# EAGLE library part ESP32-CAM (library ESP32-CAM)
Check prices <https://pricing.snapeda.com/parts/ESP32-CAM/AI-Thinker/view-part?ref=eda>
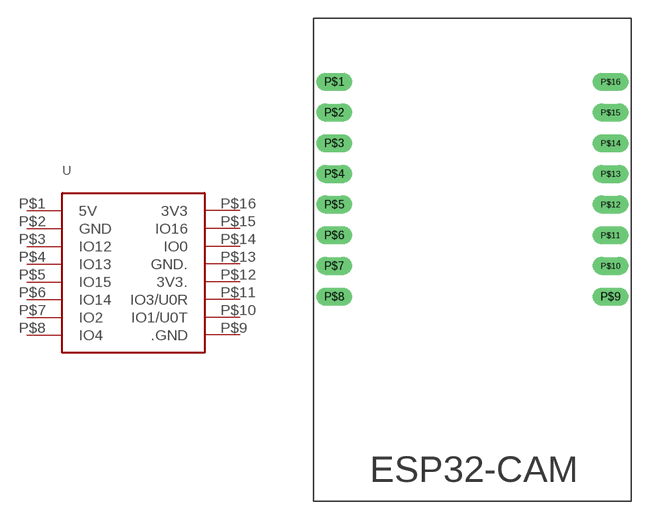
[diagram p0: symbol with the pads of ESP32-CAM; footprint ESP32-CAM]

Designator prefix -

## ESP32-CAM (Availability: Not in stock; Description: ESP32 ESP32 Transceiver; 802.11 a/b/g/n (Wi-Fi, WiFi, WLAN), Bluetooth® Smart 4.x Low Energy (BLE) Evaluation Board; MF: AI-Thinker; MP: ESP32-CAM; Package: Package; Price: None)  [ESP32-CAM]
P$1  5V
P$2  GND
P$3  IO12
P$4  IO13
P$5  IO15
P$6  IO14
P$7  IO2
P$8  IO4
P$9  .GND
P$10  IO1/U0T
P$11  IO3/U0R
P$12  3V3.
P$13  GND.
P$14  IO0
P$15  IO16
P$16  3V3

## Footprint ESP32-CAM (pad centres in mm)
drill 1 pad 1.422 long: P$1 -11.43,10.16; P$2 -11.43,7.62; P$3 -11.43,5.08; P$4 -11.43,2.54; P$5 -11.43,0; P$6 -11.43,-2.54; P$7 -11.43,-5.08; P$8 -11.43,-7.62; P$9 11.43,-7.62; P$10 11.43,-5.08; P$11 11.43,-2.54; P$12 11.43,0; P$13 11.43,2.54; P$14 11.43,5.08; P$15 11.43,7.62; P$16 11.43,10.16